# Altium footprint library TPS27.PcbLib: 1 footprints
Each footprint in its own frame and in the unit in brackets; x right, y up, seen from the top. Pads: shape width x height; smd on the part's side, far side on the other; paste and mask are expansions set on the pad; w line width, h text height; cw(c..) or ccw(c..) is an arc to the next point about the centre after c.
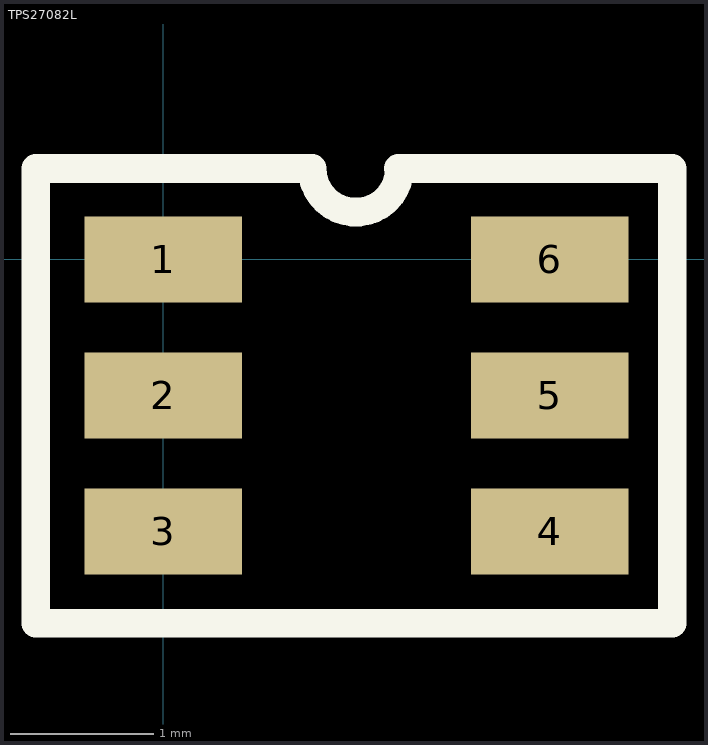
[diagram p0: the footprint, top view; thin cyan lines are the x and y axes]

## TPS27082L [mm]
pads (6):
  rect 1.1x0.6 smd: 1(0,0) 2(0,-0.95) 3(0,-1.9) 4(2.7,-1.9) 5(2.7,-0.95) 6(2.7,0)
Top Overlay:
  lines w0.2: 1.016,0.635 -0.889,0.635 -0.889,-2.54 3.556,-2.54 3.556,0.635 1.643,0.635 ; 1.041,0.635 ccw(c1.346,0.635) 1.651,0.635